# Altium integrated library Motorola Converter Temperature to Voltage.IntLib: 1 symbol
Pins are listed as number, name and electrical type; pins without a type are passive.

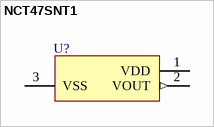
[diagram p0: symbol NCT47SNT1]

## NCT47SNT1
designator U?
High Precision Temperature-to-Voltage Converter; Published: 17-Jul-2002; DatasheetVersion: May-2000; PackageVersion: May-2000; PackageReference: SOT-23B; Publisher: Altium Limited; PackageDescription: SOT-23; 3 Leads; Body 3.0 x 2.6 mm, inc. leads (LxW max)
footprint SOT-23B (SOT-23; 3 Leads; Body 3.0 x 2.6 mm, inc. leads (LxW max))
pins: 1 VDD (power), 2 VOUT (out), 3 VSS (power)